# Altium footprint library Faston1.PcbLib: 1 footprints
Each footprint in its own frame and in the unit in brackets; x right, y up, seen from the top. Pads: shape width x height; smd on the part's side, far side on the other; paste and mask are expansions set on the pad; w line width, h text height; cw(c..) or ccw(c..) is an arc to the next point about the centre after c.
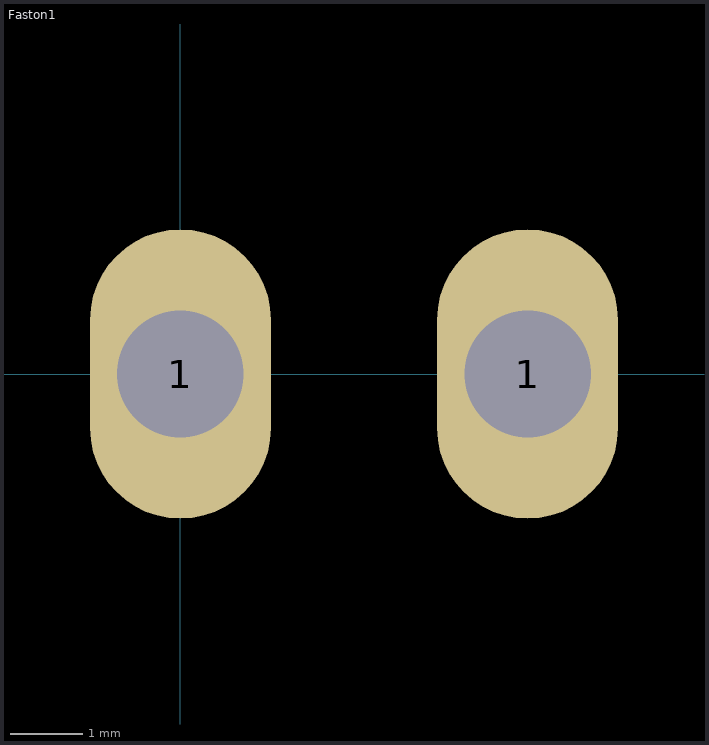
[diagram p0: the footprint, top view; thin cyan lines are the x and y axes]

## Faston1 [mm]
height 10.5
pads (2):
  oval 2.5x4 hole 1.75: 1(0,0) 1(4.8,0)
3D body: height 10.5, standoff -3.52, extent -1.6,-1.543 6.325,1.543